# EAGLE library part 93L422PC (library User-Submitted)
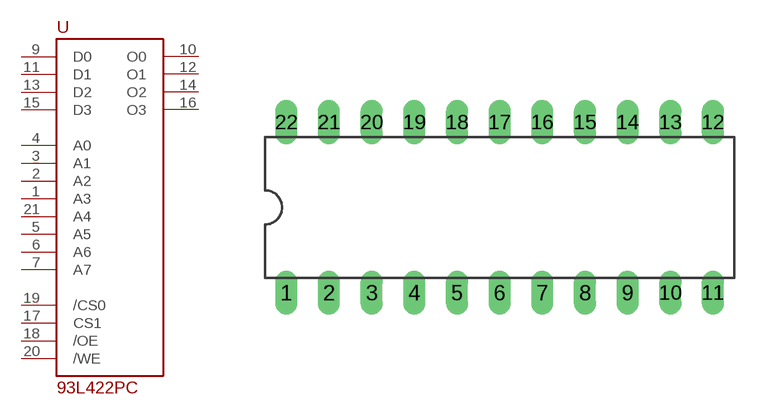
[diagram p41: symbol with the pads of DIL22; footprint DIL22]

Designator prefix -

## 93L422PC  [DIL22]
1  A3  in
2  A2  in
3  A1  in
4  A0  in
5  A5  in
6  A6  in
7  A7  in
9  D0  in
10  O0  out
11  D1  in
12  O1  out
13  D2  in
14  O2  out
15  D3  in
16  O3  out
17  CS1  in
18  /OE  in
19  /CS0  in
20  /WE  in
21  A4  in

## Footprint DIL22 (pad centres in mm)
Dual In Line Package
drill 0.813 long: 1 -12.7,-5.08; 2 -10.16,-5.08; 3 -7.62,-5.08; 4 -5.08,-5.08; 5 -2.54,-5.08; 6 0,-5.08; 7 2.54,-5.08; 8 5.08,-5.08; 9 7.62,-5.08; 10 10.16,-5.08; 11 12.7,-5.08; 12 12.7,5.08; 13 10.16,5.08; 14 7.62,5.08; 15 5.08,5.08; 16 2.54,5.08; 17 0,5.08; 18 -2.54,5.08; 19 -5.08,5.08; 20 -7.62,5.08; 21 -10.16,5.08; 22 -12.7,5.08